# Altium schematic symbol library MT_Module.SchLib: 20 symbols
Pins are listed as number, name and electrical type; pins without a type are passive.

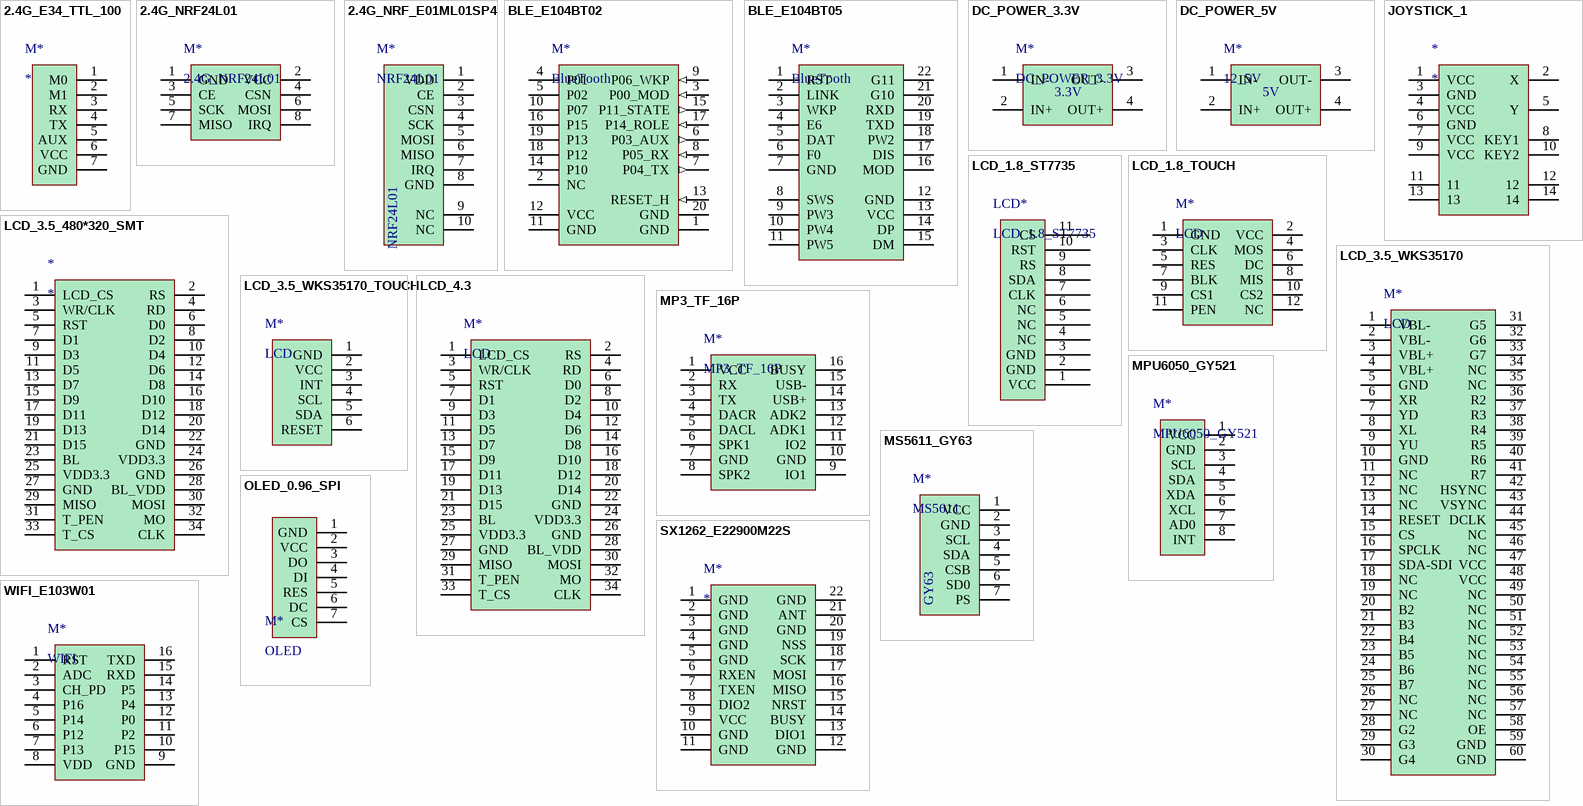
[diagram p0: symbols 2.4G_E34_TTL_100 to WIFI_E103W01]

## 2.4G_E34_TTL_100
designator M*
2.4G无线模块
footprint 2.4G_E34_TTL_100
pins: 1 M0, 2 M1, 3 RX, 4 TX, 5 AUX, 6 VCC, 7 GND

## 2.4G_NRF24L01
designator M*
2.4G无线模块
footprint 2.4G_NRF24L01
pins: 1 GND, 2 VCC, 3 CE, 4 CSN, 5 SCK, 6 MOSI, 7 MISO, 8 IRQ

## 2.4G_NRF_E01ML01SP4
designator M*, comment NRF24L01
2.4G无线模块
footprint 2.4G_NRF_E01ML01SP4
pins: 1 VDD, 2 CE, 3 CSN, 4 SCK, 5 MOSI, 6 MISO, 7 IRQ, 8 GND, 9 NC, 10 NC

## BLE_E104BT02
designator M*, comment BlueTooth
BT模块
footprint BLE_E104BT02
pins: 1 GND (power), 2 NC, 3 P00_MOD (in), 4 P01, 5 P02, 6 P03_AUX (out), 7 P04_TX (out), 8 P05_RX (in), 9 P06_WKP (in), 10 P07, 11 GND (power), 12 VCC (power), 13 RESET_H (in), 14 P10, 15 P11_STATE (out), 16 P15, 17 P14_ROLE (in), 18 P12, 19 P13, 20 GND (power)

## BLE_E104BT05
designator M*, comment BlueTooth
BT模块
footprint BLE_E104BT05
pins: 1 RST, 2 LINK, 3 WKP, 4 E6, 5 DAT, 6 F0, 7 GND, 8 SWS, 9 PW3, 10 PW4, 11 PW5, 12 GND, 13 VCC, 14 DP, 15 DM, 16 MOD, 17 DIS, 18 PW2, 19 TXD, 20 RXD, 21 G10, 22 G11

## DC_POWER_3.3V
designator M*
DC-DC
footprint DC_POWER_3.3V
pins: 1 IN-, 2 IN+, 3 OUT-, 4 OUT+
text: 3.3V

## DC_POWER_5V
designator M*, comment 12_5V
DC-DC
footprint DC_POWER_5V
pins: 1 IN-, 2 IN+, 3 OUT-, 4 OUT+
text: 5V

## JOYSTICK_1
designator *
摇杆模块
footprint JOYSTICK_1
pins: 1 VCC, 2 X, 3 GND, 4 VCC, 5 Y, 6 GND, 7 VCC, 8 KEY1, 9 VCC, 10 KEY2, 11, 12, 13, 14

## LCD_1.8_ST7735
designator LCD*
显示模块
footprint LCD_1.8_ST7735
pins: 1 VCC, 2 GND, 3 GND, 4 NC, 5 NC, 6 NC, 7 CLK, 8 SDA, 9 RS, 10 RST, 11 CS

## LCD_1.8_TOUCH
designator M*, comment LCD
显示模块
footprint LCD_1.8_TOUCH
pins: 1 GND, 2 VCC, 3 CLK, 4 MOS, 5 RES, 6 DC, 7 BLK, 8 MIS, 9 CS1, 10 CS2, 11 PEN, 12 NC

## LCD_3.5_480*320_SMT
designator *
显示模块
footprint LCD_3.5_480*320_SMT
pins: 1 LCD_CS, 2 RS, 3 WR/CLK, 4 RD, 5 RST, 6 D0, 7 D1, 8 D2, 9 D3, 10 D4, 11 D5, 12 D6, 13 D7, 14 D8, 15 D9, 16 D10, 17 D11, 18 D12, 19 D13, 20 D14, 21 D15, 22 GND, 23 BL, 24 VDD3.3, 25 VDD3.3, 26 GND, 27 GND, 28 BL_VDD, 29 MISO, 30 MOSI, 31 T_PEN, 32 MO, 33 T_CS, 34 CLK

## LCD_3.5_WKS35170
designator M*, comment LCD
显示模块
footprint FPC_0.5_40P
pins: 1 VBL-, 2 VBL-, 3 VBL+, 4 VBL+, 5 GND, 6 XR, 7 YD, 8 XL, 9 YU, 10 GND, 11 NC, 12 NC, 13 NC, 14 RESET, 15 CS, 16 SPCLK, 17 SDA-SDI, 18 NC, 19 NC, 20 B2, 21 B3, 22 B4, 23 B5, 24 B6, 25 B7, 26 NC, 27 NC, 28 G2, 29 G3, 30 G4, 31 G5, 32 G6, 33 G7, 34 NC, 35 NC, 36 R2, 37 R3, 38 R4, 39 R5, 40 R6, 41 R7, 42 HSYNC, 43 VSYNC, 44 DCLK, 45 NC, 46 NC, 47 VCC, 48 VCC, 49 NC, 50 NC, 51 NC, 52 NC, 53 NC, 54 NC, 55 NC, 56 NC, 57 NC, 58 OE, 59 GND, 60 GND
5 alternate drawings of the same symbol

## LCD_3.5_WKS35170_TOUCH
designator M*, comment LCD
显示模块
footprint FPC_0.5_6P
pins: 1 GND, 2 VCC, 3 INT, 4 SCL, 5 SDA, 6 RESET

## LCD_4.3
designator M*, comment LCD
显示模块
footprint LCD_4.3
pins: 1 LCD_CS, 2 RS, 3 WR/CLK, 4 RD, 5 RST, 6 D0, 7 D1, 8 D2, 9 D3, 10 D4, 11 D5, 12 D6, 13 D7, 14 D8, 15 D9, 16 D10, 17 D11, 18 D12, 19 D13, 20 D14, 21 D15, 22 GND, 23 BL, 24 VDD3.3, 25 VDD3.3, 26 GND, 27 GND, 28 BL_VDD, 29 MISO, 30 MOSI, 31 T_PEN, 32 MO, 33 T_CS, 34 CLK

## MP3_TF_16P
designator M*
MP3模块
footprint MP3_TF_16P
pins: 1 VCC, 2 RX, 3 TX, 4 DACR, 5 DACL, 6 SPK1, 7 GND, 8 SPK2, 9 IO1, 10 GND, 11 IO2, 12 ADK1, 13 ADK2, 14 USB+, 15 USB-, 16 BUSY

## MPU6050_GY521
designator M*
IMU
footprint MPU6050_GY521
pins: 1 VCC, 2 GND, 3 SCL, 4 SDA, 5 XDA, 6 XCL, 7 AD0, 8 INT

## MS5611_GY63
designator M*, comment MS5611
气压计
footprint MS5611_GY63
pins: 1 VCC, 2 GND, 3 SCL, 4 SDA, 5 CSB, 6 SD0, 7 PS
text: GY63

## OLED_0.96_SPI
designator M*, comment OLED
footprint OLED_0.96_SPI
pins: 1 GND, 2 VCC, 3 DO, 4 DI, 5 RES, 6 DC, 7 CS

## SX1262_E22900M22S
designator M*
900M无线模块
footprint SX1262_E22900M22S
pins: 1 GND, 2 GND, 3 GND, 4 GND, 5 GND, 6 RXEN, 7 TXEN, 8 DIO2, 9 VCC, 10 GND, 11 GND, 12 GND, 13 DIO1, 14 BUSY, 15 NRST, 16 MISO, 17 MOSI, 18 SCK, 19 NSS, 20 GND, 21 ANT, 22 GND

## WIFI_E103W01
designator M*, comment WIFI
WIFI模块
footprint WIFI_E103W01
pins: 1 RST, 2 ADC, 3 CH_PD, 4 P16, 5 P14, 6 P12, 7 P13, 8 VDD, 9 GND, 10 P15, 11 P2, 12 P0, 13 P4, 14 P5, 15 RXD, 16 TXD